# Altium schematic symbol library STK681_320.SCHLIB: 1 symbol
Pins are listed as number, name and electrical type; pins without a type are passive.

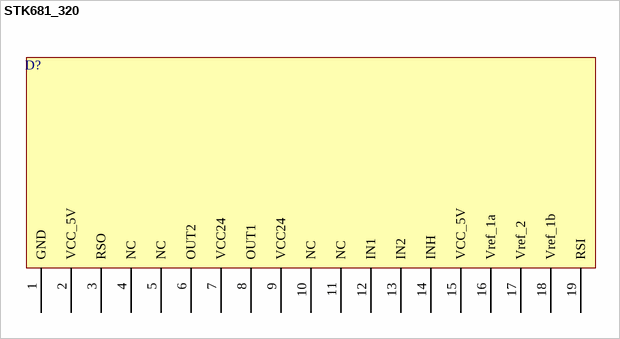
[diagram p0: symbol STK681_320]

## STK681_320
designator D?
footprint stk681_320
pins: 1 GND, 2 VCC_5V, 3 RSO, 4 NC, 5 NC, 6 OUT2, 7 VCC24, 8 OUT1, 9 VCC24, 10 NC, 11 NC, 12 IN1, 13 IN2, 14 INH, 15 VCC_5V, 16 Vref_1a, 17 Vref_2, 18 Vref_1b, 19 RSI